# Altium footprint library HDDR_4x1_0.PcbLib: 1 footprints
Each footprint in its own frame and in the unit in brackets; x right, y up, seen from the top. Pads: shape width x height; smd on the part's side, far side on the other; paste and mask are expansions set on the pad; w line width, h text height; cw(c..) or ccw(c..) is an arc to the next point about the centre after c.
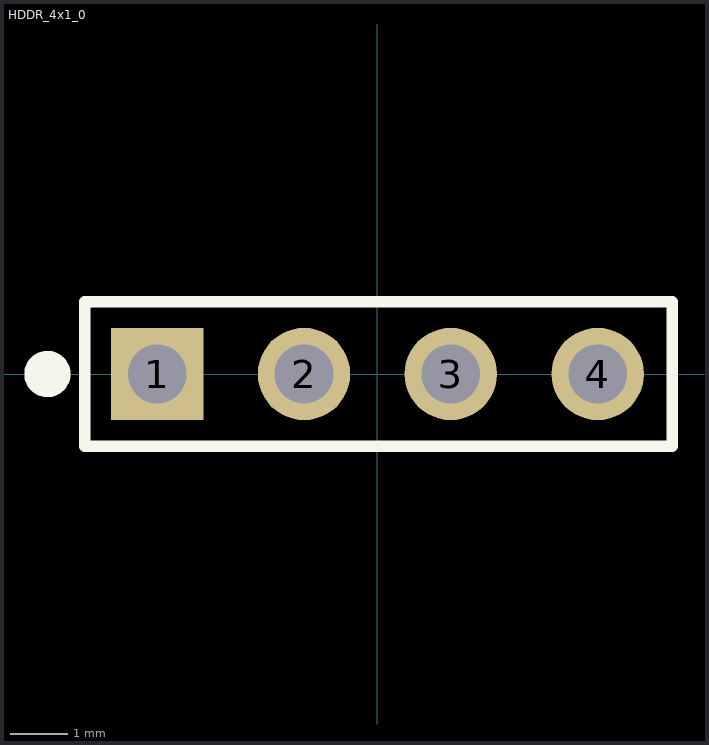
[diagram p0: the footprint, top view; thin cyan lines are the x and y axes]

## HDDR_4x1_0 [mm]
pads (4):
  rect 1.6x1.6 hole 1.016: 1(-3.81,0)
  round 1.6 hole 1.016: 2(-1.27,0) 3(1.27,0) 4(3.81,0)
Top Overlay:
  circle w0.4: c-5.71,0 r0.2
  lines w0.2: -5.06,-1.25 -5.06,1.25 5.1,1.25 5.1,-1.25 -5.06,-1.25
3D body "hddr_male_4x1.SLDPRT": height 8.54, standoff -3, extent -5.08,-1.27 5.08,1.27